# EAGLE library part NE555 (library ic)
NE555: Single timer (Fairchild) 15V, -50mA...+200mA, 5MHz
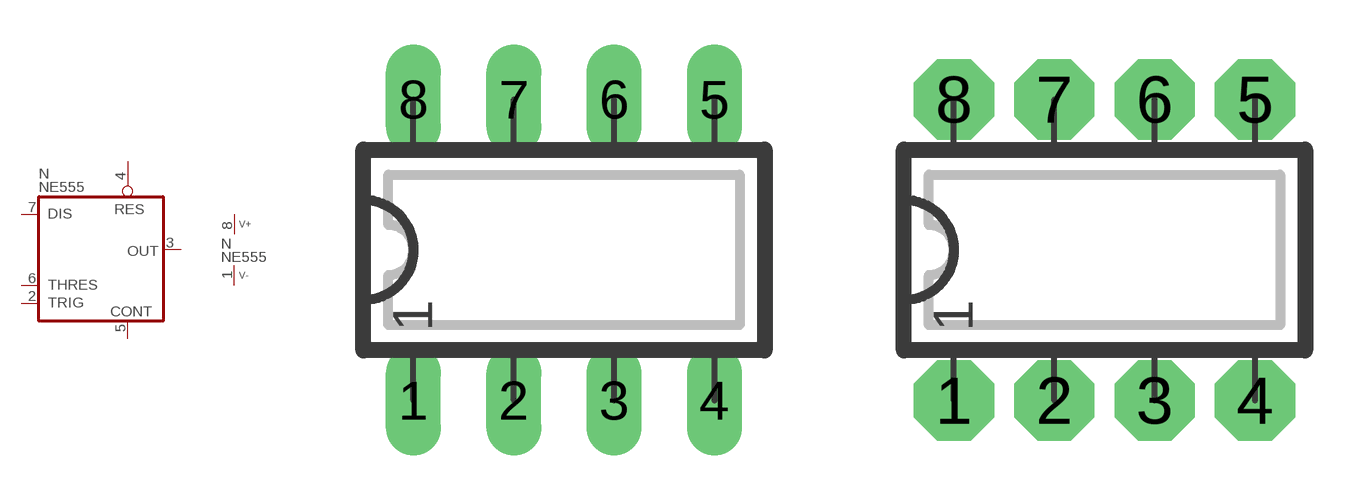
[diagram p59: symbol with the pads of DIP08L; footprints DIP08L, DIP08N]

Designator prefix N; gates  =NE555 P=V+-

## NE555  [DIP08L]
1  P:V-  pwr
2   :TRIG
3   :OUT  out
4   :RES  in
5   :CONT  pas
6   :THRES
7   :DIS
8  P:V+  pwr

## NE555L  [DIP08L]
Pads as for DIP08L

## NE555N  [DIP08N]
Pads as for DIP08L

## NE555R  [DIP08R]
Pads as for DIP08L

## Footprint DIP08L (pad centres in mm)
DIP-8, long pads Standard IC package, 8 pins
drill 0.813 pad 1.397 long: 1 -3.81,-3.81; 2 -1.27,-3.81; 3 1.27,-3.81; 4 3.81,-3.81; 5 3.81,3.81; 6 1.27,3.81; 7 -1.27,3.81; 8 -3.81,3.81

## Footprint DIP08N (pad centres in mm)
DIP-8 Standard IC package, 8 pins
drill 0.813 pad 2.032 octagon: 1 -3.81,-3.81; 2 -1.27,-3.81; 3 1.27,-3.81; 4 3.81,-3.81; 5 3.81,3.81; 6 1.27,3.81; 7 -1.27,3.81; 8 -3.81,3.81

## Footprint DIP08R (pad centres in mm)
DIP-8, reduced pads Standard IC package, 8 pins
drill 0.813 pad 1.397 square: 1 -3.81,-3.81; 2 -1.27,-3.81; 3 1.27,-3.81; 4 3.81,-3.81; 5 3.81,3.81; 6 1.27,3.81; 7 -1.27,3.81; 8 -3.81,3.81